# Altium schematic symbol library BC847C.SchLib: 1 symbol
Pins are listed as number, name and electrical type; pins without a type are passive.

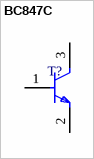
[diagram p0: symbol BC847C]

## BC847C
designator T?  (value not drawn)
footprint SOT23-3_IPC_A
pins: 1 B, 2 E, 3 C